# Altium schematic symbol library WCAP-PTHT.SchLib: 24 symbols
Pins are listed as number, name and electrical type; pins without a type are passive.

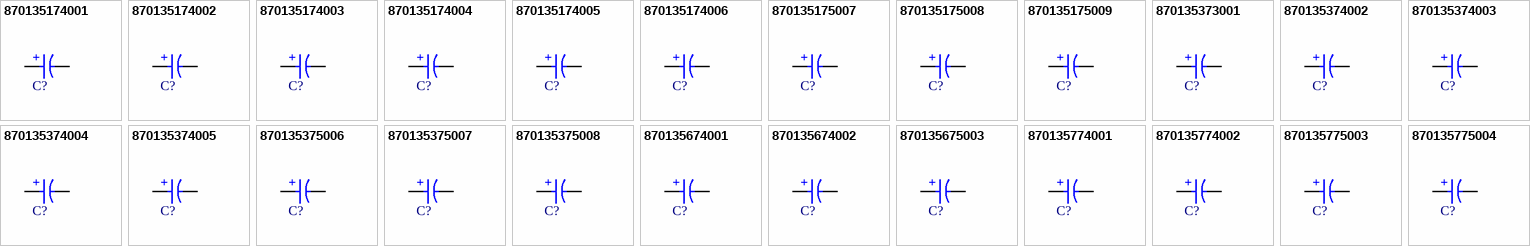
[diagram p0: symbols 870135174001 to 870135775004]

## 870135174001
designator C?, comment 390µF  (value not drawn)
WCAP-PTHT Aluminum Polymer Capacitor, Radial THT, D8 x H8mm, 390µF, 6.3V; Manufacturer Part Number: 870135174001; Manufacturer: Wurth Elektronik; Capacitance Tolerance: +/-20%; Dissipation Factor: 8%; Endurance: 2000h; ESR: 9mΩ; Leakage Current: 491.4µA; Ripple Current: 6100mA; Technical Reference: PTKE080391M6R3DSPA7B000; Category: Aluminum Polymer Capacitors; Match Code: WCAP-PTHT; ComponentLink1Description: Website Link; ComponentLink1URL: https://www.we-online.com/redexpert/article/870135174001?ad; ComponentLink2Description: Datasheet Link; ComponentLink2URL: https://www.we-online.com/redexpert/spec/870135174001?ad; Mount: Through Hole; Operating Temperature Max: 125°C; Operating Temperature Min: -55°C; Packaging: Ammo Pack; Height: 8mm; Diameter: 8mm; Capacitance: 390µF; Rated Voltage (DC): 6.3V
footprint WCAP-PTHT_D8H8
simulation model 870135174001_390uF
pins: 1 P, 2 N
text: +

## 870135174002
designator C?, comment 470µF  (value not drawn)
WCAP-PTHT Aluminum Polymer Capacitor, Radial THT, D8 x H8mm, 470µF, 6.3V; Manufacturer Part Number: 870135174002; Manufacturer: Wurth Elektronik; Capacitance Tolerance: +/-20%; Dissipation Factor: 8%; Endurance: 2000h; ESR: 9mΩ; Leakage Current: 592µA; Ripple Current: 6100mA; Technical Reference: PTKE080471M6R3DSPA7B000; Category: Aluminum Polymer Capacitors; Match Code: WCAP-PTHT; ComponentLink1Description: Website Link; ComponentLink1URL: https://www.we-online.com/redexpert/article/870135174002?ad; ComponentLink2Description: Datasheet Link; ComponentLink2URL: https://www.we-online.com/redexpert/spec/870135174002?ad; Mount: Through Hole; Operating Temperature Max: 125°C; Operating Temperature Min: -55°C; Packaging: Ammo Pack; Height: 8mm; Diameter: 8mm; Capacitance: 470µF; Rated Voltage (DC): 6.3V
footprint WCAP-PTHT_D8H8
simulation model 870135174002_470uF
pins: 1 P, 2 N
text: +

## 870135174003
designator C?, comment 560µF  (value not drawn)
WCAP-PTHT Aluminum Polymer Capacitor, Radial THT, D8 x H8mm, 560µF, 6.3V; Manufacturer Part Number: 870135174003; Manufacturer: Wurth Elektronik; Capacitance Tolerance: +/-20%; Dissipation Factor: 8%; Endurance: 2000h; ESR: 9mΩ; Leakage Current: 705.6µA; Ripple Current: 6100mA; Technical Reference: PTKE080561M6R3DSPA7B000; Category: Aluminum Polymer Capacitors; Match Code: WCAP-PTHT; ComponentLink1Description: Website Link; ComponentLink1URL: https://www.we-online.com/redexpert/article/870135174003?ad; ComponentLink2Description: Datasheet Link; ComponentLink2URL: https://www.we-online.com/redexpert/spec/870135174003?ad; Mount: Through Hole; Operating Temperature Max: 125°C; Operating Temperature Min: -55°C; Packaging: Ammo Pack; Height: 8mm; Diameter: 8mm; Capacitance: 560µF; Rated Voltage (DC): 6.3V
footprint WCAP-PTHT_D8H8
simulation model 870135174003_560uF
pins: 1 P, 2 N
text: +

## 870135174004
designator C?, comment 680µF  (value not drawn)
WCAP-PTHT Aluminum Polymer Capacitor, Radial THT, D8 x H8mm, 680µF, 6.3V; Manufacturer Part Number: 870135174004; Manufacturer: Wurth Elektronik; Capacitance Tolerance: +/-20%; Dissipation Factor: 8%; Endurance: 2000h; ESR: 9mΩ; Leakage Current: 428µA; Ripple Current: 6100mA; Technical Reference: PTKE080681M6R3DSPA7B000; Category: Aluminum Polymer Capacitors; Match Code: WCAP-PTHT; ComponentLink1Description: Website Link; ComponentLink1URL: https://www.we-online.com/redexpert/article/870135174004?ad; ComponentLink2Description: Datasheet Link; ComponentLink2URL: https://www.we-online.com/redexpert/spec/870135174004?ad; Mount: Through Hole; Operating Temperature Max: 125°C; Operating Temperature Min: -55°C; Packaging: Ammo Pack; Height: 8mm; Diameter: 8mm; Capacitance: 680µF; Rated Voltage (DC): 6.3V
footprint WCAP-PTHT_D8H8
simulation model 870135174004_680uF
pins: 1 P, 2 N
text: +

## 870135174005
designator C?, comment 820µF  (value not drawn)
WCAP-PTHT Aluminum Polymer Capacitor, Radial THT, D8 x H11.5mm, 820µF, 6.3V; Manufacturer Part Number: 870135174005; Manufacturer: Wurth Elektronik; Capacitance Tolerance: +/-20%; Dissipation Factor: 10%; Endurance: 2000h; ESR: 9mΩ; Leakage Current: 516.6µA; Ripple Current: 6100mA; Technical Reference: PTKE115821M6R3DSPA7B000; Category: Aluminum Polymer Capacitors; Match Code: WCAP-PTHT; ComponentLink1Description: Website Link; ComponentLink1URL: https://www.we-online.com/redexpert/article/870135174005?ad; ComponentLink2Description: Datasheet Link; ComponentLink2URL: https://www.we-online.com/redexpert/spec/870135174005?ad; Mount: Through Hole; Operating Temperature Max: 125°C; Operating Temperature Min: -55°C; Packaging: Ammo Pack; Height: 11.5mm; Diameter: 8mm; Capacitance: 820µF; Rated Voltage (DC): 6.3V
footprint WCAP-PTHT_D8H11.5
simulation model 870135174005_820uF
pins: 1 P, 2 N
text: +

## 870135174006
designator C?, comment 1000µF  (value not drawn)
WCAP-PTHT Aluminum Polymer Capacitor, Radial THT, D8 x H11.5mm, 1000µF, 6.3V; Manufacturer Part Number: 870135174006; Manufacturer: Wurth Elektronik; Capacitance Tolerance: +/-20%; Dissipation Factor: 10%; Endurance: 2000h; ESR: 9mΩ; Leakage Current: 630µA; Ripple Current: 6100mA; Technical Reference: PTKE115102M6R3DSPA7B000; Category: Aluminum Polymer Capacitors; Match Code: WCAP-PTHT; ComponentLink1Description: Website Link; ComponentLink1URL: https://www.we-online.com/redexpert/article/870135174006?ad; ComponentLink2Description: Datasheet Link; ComponentLink2URL: https://www.we-online.com/redexpert/spec/870135174006?ad; Mount: Through Hole; Operating Temperature Max: 125°C; Operating Temperature Min: -55°C; Packaging: Ammo Pack; Height: 11.5mm; Diameter: 8mm; Capacitance: 1000µF; Rated Voltage (DC): 6.3V
footprint WCAP-PTHT_D8H11.5
simulation model 870135174006_1mF
pins: 1 P, 2 N
text: +

## 870135175007
designator C?, comment 1200µF  (value not drawn)
WCAP-PTHT Aluminum Polymer Capacitor, Radial THT, D10 x H12.5mm, 1200µF, 6.3V; Manufacturer Part Number: 870135175007; Manufacturer: Wurth Elektronik; Capacitance Tolerance: +/-20%; Dissipation Factor: 10%; Endurance: 2000h; ESR: 9mΩ; Leakage Current: 756µA; Ripple Current: 6640mA; Technical Reference: PTKF125122M6R3DSPA9B000; Category: Aluminum Polymer Capacitors; Match Code: WCAP-PTHT; ComponentLink1Description: Website Link; ComponentLink1URL: https://www.we-online.com/redexpert/article/870135175007?ad; ComponentLink2Description: Datasheet Link; ComponentLink2URL: https://www.we-online.com/redexpert/spec/870135175007?ad; Mount: Through Hole; Operating Temperature Max: 125°C; Operating Temperature Min: -55°C; Packaging: Ammo Pack; Height: 12.5mm; Diameter: 10mm; Capacitance: 1200µF; Rated Voltage (DC): 6.3V
footprint WCAP-PTHT_D10H12.5
simulation model 870135175007_1.2mF
pins: 1 P, 2 N
text: +

## 870135175008
designator C?, comment 1500µF  (value not drawn)
WCAP-PTHT Aluminum Polymer Capacitor, Radial THT, D10 x H12.5mm, 1500µF, 6.3V; Manufacturer Part Number: 870135175008; Manufacturer: Wurth Elektronik; Capacitance Tolerance: +/-20%; Dissipation Factor: 10%; Endurance: 2000h; ESR: 9mΩ; Leakage Current: 945µA; Ripple Current: 6640mA; Technical Reference: PTKF125152M6R3DSPA9B000; Category: Aluminum Polymer Capacitors; Match Code: WCAP-PTHT; ComponentLink1Description: Website Link; ComponentLink1URL: https://www.we-online.com/redexpert/article/870135175008?ad; ComponentLink2Description: Datasheet Link; ComponentLink2URL: https://www.we-online.com/redexpert/spec/870135175008?ad; Mount: Through Hole; Operating Temperature Max: 125°C; Operating Temperature Min: -55°C; Packaging: Ammo Pack; Height: 12.5mm; Diameter: 10mm; Capacitance: 1500µF; Rated Voltage (DC): 6.3V
footprint WCAP-PTHT_D10H12.5
simulation model 870135175008_1.5mF
pins: 1 P, 2 N
text: +

## 870135175009
designator C?, comment 2000µF  (value not drawn)
WCAP-PTHT Aluminum Polymer Capacitor, Radial THT, D10 x H12.5mm, 2000µF, 6.3V; Manufacturer Part Number: 870135175009; Manufacturer: Wurth Elektronik; Capacitance Tolerance: +/-20%; Dissipation Factor: 10%; Endurance: 2000h; ESR: 9mΩ; Leakage Current: 1260µA; Ripple Current: 6640mA; Technical Reference: PTKF125202M6R3DSPA9B000; Category: Aluminum Polymer Capacitors; Match Code: WCAP-PTHT; ComponentLink1Description: Website Link; ComponentLink1URL: https://www.we-online.com/redexpert/article/870135175009?ad; ComponentLink2Description: Datasheet Link; ComponentLink2URL: https://www.we-online.com/redexpert/spec/870135175009?ad; Mount: Through Hole; Operating Temperature Max: 125°C; Operating Temperature Min: -55°C; Packaging: Ammo Pack; Height: 12.5mm; Diameter: 10mm; Capacitance: 2000µF; Rated Voltage (DC): 6.3V
footprint WCAP-PTHT_D10H12.5
simulation model 870135175009_2mF
pins: 1 P, 2 N
text: +

## 870135373001
designator C?, comment 100µF  (value not drawn)
WCAP-PTHT Aluminum Polymer Capacitor, Radial THT, D6.3 x H11mm, 100µF, 16V; Manufacturer Part Number: 870135373001; Manufacturer: Wurth Elektronik; Capacitance Tolerance: +/-20%; Dissipation Factor: 8%; Endurance: 2000h; ESR: 12mΩ; Leakage Current: 160µA; Ripple Current: 4800mA; Technical Reference: PTKD110101M016DSPA4B000; Category: Aluminum Polymer Capacitors; Match Code: WCAP-PTHT; ComponentLink1Description: Website Link; ComponentLink1URL: https://www.we-online.com/redexpert/article/870135373001?ad; ComponentLink2Description: Datasheet Link; ComponentLink2URL: https://www.we-online.com/redexpert/spec/870135373001?ad; Mount: Through Hole; Operating Temperature Max: 125°C; Operating Temperature Min: -55°C; Packaging: Ammo Pack; Height: 11mm; Diameter: 6.3mm; Capacitance: 100µF; Rated Voltage (DC): 16V
footprint WCAP-PTHT_D6.3H11
simulation model 870135373001_100uF
pins: 1 P, 2 N
text: +

## 870135374002
designator C?, comment 180µF  (value not drawn)
WCAP-PTHT Aluminum Polymer Capacitor, Radial THT, D8 x H11.5mm, 180µF, 16V; Manufacturer Part Number: 870135374002; Manufacturer: Wurth Elektronik; Capacitance Tolerance: +/-20%; Dissipation Factor: 8%; Endurance: 2000h; ESR: 10mΩ; Leakage Current: 288µA; Ripple Current: 5600mA; Technical Reference: PTKE115181M016DSPA7B000; Category: Aluminum Polymer Capacitors; Match Code: WCAP-PTHT; ComponentLink1Description: Website Link; ComponentLink1URL: https://www.we-online.com/redexpert/article/870135374002?ad; ComponentLink2Description: Datasheet Link; ComponentLink2URL: https://www.we-online.com/redexpert/spec/870135374002?ad; Mount: Through Hole; Operating Temperature Max: 125°C; Operating Temperature Min: -55°C; Packaging: Ammo Pack; Height: 11.5mm; Diameter: 8mm; Capacitance: 180µF; Rated Voltage (DC): 16V
footprint WCAP-PTHT_D8H11.5
simulation model 870135374002_180uF
pins: 1 P, 2 N
text: +

## 870135374003
designator C?, comment 220µF  (value not drawn)
WCAP-PTHT Aluminum Polymer Capacitor, Radial THT, D8 x H11.5mm, 220µF, 16V; Manufacturer Part Number: 870135374003; Manufacturer: Wurth Elektronik; Capacitance Tolerance: +/-20%; Dissipation Factor: 8%; Endurance: 2000h; ESR: 10mΩ; Leakage Current: 352µA; Ripple Current: 5600mA; Technical Reference: PTKE115221M016DSPA7B000; Category: Aluminum Polymer Capacitors; Match Code: WCAP-PTHT; ComponentLink1Description: Website Link; ComponentLink1URL: https://www.we-online.com/redexpert/article/870135374003?ad; ComponentLink2Description: Datasheet Link; ComponentLink2URL: https://www.we-online.com/redexpert/spec/870135374003?ad; Mount: Through Hole; Operating Temperature Max: 125°C; Operating Temperature Min: -55°C; Packaging: Ammo Pack; Height: 11.5mm; Diameter: 8mm; Capacitance: 220µF; Rated Voltage (DC): 16V
footprint WCAP-PTHT_D8H11.5
simulation model 870135374003_220uF
pins: 1 P, 2 N
text: +

## 870135374004
designator C?, comment 270µF  (value not drawn)
WCAP-PTHT Aluminum Polymer Capacitor, Radial THT, D8 x H11.5mm, 270µF, 16V; Manufacturer Part Number: 870135374004; Manufacturer: Wurth Elektronik; Capacitance Tolerance: +/-20%; Dissipation Factor: 8%; Endurance: 2000h; ESR: 10mΩ; Leakage Current: 432µA; Ripple Current: 5600mA; Technical Reference: PTKE115271M016DSPA7B000; Category: Aluminum Polymer Capacitors; Match Code: WCAP-PTHT; ComponentLink1Description: Website Link; ComponentLink1URL: https://www.we-online.com/redexpert/article/870135374004?ad; ComponentLink2Description: Datasheet Link; ComponentLink2URL: https://www.we-online.com/redexpert/spec/870135374004?ad; Mount: Through Hole; Operating Temperature Max: 125°C; Operating Temperature Min: -55°C; Packaging: Ammo Pack; Height: 11.5mm; Diameter: 8mm; Capacitance: 270µF; Rated Voltage (DC): 16V
footprint WCAP-PTHT_D8H11.5
simulation model 870135374004_270uF
pins: 1 P, 2 N
text: +

## 870135374005
designator C?, comment 330µF  (value not drawn)
WCAP-PTHT Aluminum Polymer Capacitor, Radial THT, D8 x H11.5mm, 330µF, 16V; Manufacturer Part Number: 870135374005; Manufacturer: Wurth Elektronik; Capacitance Tolerance: +/-20%; Dissipation Factor: 8%; Endurance: 2000h; ESR: 10mΩ; Leakage Current: 528µA; Ripple Current: 5600mA; Technical Reference: PTKE115331M016DSPA7B000; Category: Aluminum Polymer Capacitors; Match Code: WCAP-PTHT; ComponentLink1Description: Website Link; ComponentLink1URL: https://www.we-online.com/redexpert/article/870135374005?ad; ComponentLink2Description: Datasheet Link; ComponentLink2URL: https://www.we-online.com/redexpert/spec/870135374005?ad; Mount: Through Hole; Operating Temperature Max: 125°C; Operating Temperature Min: -55°C; Packaging: Ammo Pack; Height: 11.5mm; Diameter: 8mm; Capacitance: 330µF; Rated Voltage (DC): 16V
footprint WCAP-PTHT_D8H11.5
simulation model 870135374005_330uF
pins: 1 P, 2 N
text: +

## 870135375006
designator C?, comment 390µF  (value not drawn)
WCAP-PTHT Aluminum Polymer Capacitor, Radial THT, D10 x H12.5mm, 390µF, 16V; Manufacturer Part Number: 870135375006; Manufacturer: Wurth Elektronik; Capacitance Tolerance: +/-20%; Dissipation Factor: 8%; Endurance: 2000h; ESR: 10mΩ; Leakage Current: 624µA; Ripple Current: 6100mA; Technical Reference: PTKF125391M016DSPA9B000; Category: Aluminum Polymer Capacitors; Match Code: WCAP-PTHT; ComponentLink1Description: Website Link; ComponentLink1URL: https://www.we-online.com/redexpert/article/870135375006?ad; ComponentLink2Description: Datasheet Link; ComponentLink2URL: https://www.we-online.com/redexpert/spec/870135375006?ad; Mount: Through Hole; Operating Temperature Max: 125°C; Operating Temperature Min: -55°C; Packaging: Ammo Pack; Height: 12.5mm; Diameter: 10mm; Capacitance: 390µF; Rated Voltage (DC): 16V
footprint WCAP-PTHT_D10H12.5
simulation model 870135375006_390uF
pins: 1 P, 2 N
text: +

## 870135375007
designator C?, comment 470µF  (value not drawn)
WCAP-PTHT Aluminum Polymer Capacitor, Radial THT, D10 x H12.5mm, 470µF, 16V; Manufacturer Part Number: 870135375007; Manufacturer: Wurth Elektronik; Capacitance Tolerance: +/-20%; Dissipation Factor: 10%; Endurance: 2000h; ESR: 10mΩ; Leakage Current: 752µA; Ripple Current: 6100mA; Technical Reference: PTKF125471M016DSPA9B000; Category: Aluminum Polymer Capacitors; Match Code: WCAP-PTHT; ComponentLink1Description: Website Link; ComponentLink1URL: https://www.we-online.com/redexpert/article/870135375007?ad; ComponentLink2Description: Datasheet Link; ComponentLink2URL: https://www.we-online.com/redexpert/spec/870135375007?ad; Mount: Through Hole; Operating Temperature Max: 125°C; Operating Temperature Min: -55°C; Packaging: Ammo Pack; Height: 12.5mm; Diameter: 10mm; Capacitance: 470µF; Rated Voltage (DC): 16V
footprint WCAP-PTHT_D10H12.5
simulation model 870135375007_470uF
pins: 1 P, 2 N
text: +

## 870135375008
designator C?, comment 560µF  (value not drawn)
WCAP-PTHT Aluminum Polymer Capacitor, Radial THT, D10 x H12.5mm, 560µF, 16V; Manufacturer Part Number: 870135375008; Manufacturer: Wurth Elektronik; Capacitance Tolerance: +/-20%; Dissipation Factor: 10%; Endurance: 2000h; ESR: 10mΩ; Leakage Current: 896µA; Ripple Current: 6100mA; Technical Reference: PTKF125561M016DSPA9B000; Category: Aluminum Polymer Capacitors; Match Code: WCAP-PTHT; ComponentLink1Description: Website Link; ComponentLink1URL: https://www.we-online.com/redexpert/article/870135375008?ad; ComponentLink2Description: Datasheet Link; ComponentLink2URL: https://www.we-online.com/redexpert/spec/870135375008?ad; Mount: Through Hole; Operating Temperature Max: 125°C; Operating Temperature Min: -55°C; Packaging: Ammo Pack; Height: 12.5mm; Diameter: 10mm; Capacitance: 560µF; Rated Voltage (DC): 16V
footprint WCAP-PTHT_D10H12.5
simulation model 870135375008_560uF
pins: 1 P, 2 N
text: +

## 870135674001
designator C?, comment 39µF  (value not drawn)
WCAP-PTHT Aluminum Polymer Capacitor, Radial THT, D8 x H8mm, 39µF, 35V; Manufacturer Part Number: 870135674001; Manufacturer: Wurth Elektronik; Capacitance Tolerance: +/-20%; Dissipation Factor: 12%; Endurance: 2000h; ESR: 32mΩ; Leakage Current: 273µA; Ripple Current: 2600mA; Technical Reference: PTKE080390M035DSPA7B000; Category: Aluminum Polymer Capacitors; Match Code: WCAP-PTHT; ComponentLink1Description: Website Link; ComponentLink1URL: https://www.we-online.com/redexpert/article/870135674001?ad; ComponentLink2Description: Datasheet Link; ComponentLink2URL: https://www.we-online.com/redexpert/spec/870135674001?ad; Mount: Through Hole; Operating Temperature Max: 125°C; Operating Temperature Min: -55°C; Packaging: Ammo Pack; Height: 8mm; Diameter: 8mm; Capacitance: 39µF; Rated Voltage (DC): 35V
footprint WCAP-PTHT_D8H8
simulation model 870135674001_39uF
pins: 1 P, 2 N
text: +

## 870135674002
designator C?, comment 56µF  (value not drawn)
WCAP-PTHT Aluminum Polymer Capacitor, Radial THT, D8 x H11.5mm, 56µF, 35V; Manufacturer Part Number: 870135674002; Manufacturer: Wurth Elektronik; Capacitance Tolerance: +/-20%; Dissipation Factor: 12%; Endurance: 2000h; ESR: 25mΩ; Leakage Current: 392µA; Ripple Current: 3200mA; Technical Reference: PTKE115560M035DSPA7B000; Category: Aluminum Polymer Capacitors; Match Code: WCAP-PTHT; ComponentLink1Description: Website Link; ComponentLink1URL: https://www.we-online.com/redexpert/article/870135674002?ad; ComponentLink2Description: Datasheet Link; ComponentLink2URL: https://www.we-online.com/redexpert/spec/870135674002?ad; Mount: Through Hole; Operating Temperature Max: 125°C; Operating Temperature Min: -55°C; Packaging: Ammo Pack; Height: 11.5mm; Diameter: 8mm; Capacitance: 56µF; Rated Voltage (DC): 35V
footprint WCAP-PTHT_D8H11.5
simulation model 870135674002_56uF
pins: 1 P, 2 N
text: +

## 870135675003
designator C?, comment 100µF  (value not drawn)
WCAP-PTHT Aluminum Polymer Capacitor, Radial THT, D10 x H12.5mm, 100µF, 35V; Manufacturer Part Number: 870135675003; Manufacturer: Wurth Elektronik; Capacitance Tolerance: +/-20%; Dissipation Factor: 12%; Endurance: 2000h; ESR: 22mΩ; Leakage Current: 700µA; Ripple Current: 4000mA; Technical Reference: PTKF125101M035DSPA9B000; Category: Aluminum Polymer Capacitors; Match Code: WCAP-PTHT; ComponentLink1Description: Website Link; ComponentLink1URL: https://www.we-online.com/redexpert/article/870135675003?ad; ComponentLink2Description: Datasheet Link; ComponentLink2URL: https://www.we-online.com/redexpert/spec/870135675003?ad; Mount: Through Hole; Operating Temperature Max: 125°C; Operating Temperature Min: -55°C; Packaging: Ammo Pack; Height: 12.5mm; Diameter: 10mm; Capacitance: 100µF; Rated Voltage (DC): 35V
footprint WCAP-PTHT_D10H12.5
simulation model 870135675003_100uF
pins: 1 P, 2 N
text: +

## 870135774001
designator C?, comment 22µF  (value not drawn)
WCAP-PTHT Aluminum Polymer Capacitor, Radial THT, D8 x H8mm, 22µF, 50V; Manufacturer Part Number: 870135774001; Manufacturer: Wurth Elektronik; Capacitance Tolerance: +/-20%; Dissipation Factor: 12%; Endurance: 2000h; ESR: 35mΩ; Leakage Current: 220µA; Ripple Current: 2500mA; Technical Reference: PTKE080220M050DSPA7B000; Category: Aluminum Polymer Capacitors; Match Code: WCAP-PTHT; ComponentLink1Description: Website Link; ComponentLink1URL: https://www.we-online.com/redexpert/article/870135774001?ad; ComponentLink2Description: Datasheet Link; ComponentLink2URL: https://www.we-online.com/redexpert/spec/870135774001?ad; Mount: Through Hole; Operating Temperature Max: 125°C; Operating Temperature Min: -55°C; Packaging: Ammo Pack; Height: 8mm; Diameter: 8mm; Capacitance: 22µF; Rated Voltage (DC): 50V
footprint WCAP-PTHT_D8H8
simulation model 870135774001_22uF
pins: 1 P, 2 N
text: +

## 870135774002
designator C?, comment 27µF  (value not drawn)
WCAP-PTHT Aluminum Polymer Capacitor, Radial THT, D8 x H11.5mm, 27µF, 50V; Manufacturer Part Number: 870135774002; Manufacturer: Wurth Elektronik; Capacitance Tolerance: +/-20%; Dissipation Factor: 12%; Endurance: 2000h; ESR: 32mΩ; Leakage Current: 270µA; Ripple Current: 2700mA; Technical Reference: PTKE115270M050DSPA7B000; Category: Aluminum Polymer Capacitors; Match Code: WCAP-PTHT; ComponentLink1Description: Website Link; ComponentLink1URL: https://www.we-online.com/redexpert/article/870135774002?ad; ComponentLink2Description: Datasheet Link; ComponentLink2URL: https://www.we-online.com/redexpert/spec/870135774002?ad; Mount: Through Hole; Operating Temperature Max: 125°C; Operating Temperature Min: -55°C; Packaging: Ammo Pack; Height: 11.5mm; Diameter: 8mm; Capacitance: 27µF; Rated Voltage (DC): 50V
footprint WCAP-PTHT_D8H11.5
simulation model 870135774002_27uF
pins: 1 P, 2 N
text: +

## 870135775003
designator C?, comment 33µF  (value not drawn)
WCAP-PTHT Aluminum Polymer Capacitor, Radial THT, D10 x H10mm, 33µF, 50V; Manufacturer Part Number: 870135775003; Manufacturer: Wurth Elektronik; Capacitance Tolerance: +/-20%; Dissipation Factor: 12%; Endurance: 2000h; ESR: 30mΩ; Leakage Current: 330µA; Ripple Current: 3476mA; Technical Reference: PTKF100330M050DSPA9B000; Category: Aluminum Polymer Capacitors; Match Code: WCAP-PTHT; ComponentLink1Description: Website Link; ComponentLink1URL: https://www.we-online.com/redexpert/article/870135775003?ad; ComponentLink2Description: Datasheet Link; ComponentLink2URL: https://www.we-online.com/redexpert/spec/870135775003?ad; Mount: Through Hole; Operating Temperature Max: 125°C; Operating Temperature Min: -55°C; Packaging: Ammo Pack; Height: 10mm; Diameter: 10mm; Capacitance: 33µF; Rated Voltage (DC): 50V
footprint WCAP-PTHT_D10H10
simulation model 870135775003_33uF
pins: 1 P, 2 N
text: +

## 870135775004
designator C?, comment 47µF  (value not drawn)
WCAP-PTHT Aluminum Polymer Capacitor, Radial THT, D10 x H12.5mm, 47µF, 50V; Manufacturer Part Number: 870135775004; Manufacturer: Wurth Elektronik; Capacitance Tolerance: +/-20%; Dissipation Factor: 12%; Endurance: 2000h; ESR: 25mΩ; Leakage Current: 470µA; Ripple Current: 4100mA; Technical Reference: PTKF125470M050DSPA9B000; Category: Aluminum Polymer Capacitors; Match Code: WCAP-PTHT; ComponentLink1Description: Website Link; ComponentLink1URL: https://www.we-online.com/redexpert/article/870135775004?ad; ComponentLink2Description: Datasheet Link; ComponentLink2URL: https://www.we-online.com/redexpert/spec/870135775004?ad; Mount: Through Hole; Operating Temperature Max: 125°C; Operating Temperature Min: -55°C; Packaging: Ammo Pack; Height: 12.5mm; Diameter: 10mm; Capacitance: 47µF; Rated Voltage (DC): 50V
footprint WCAP-PTHT_D10H12.5
simulation model 870135775004_47uF
pins: 1 P, 2 N
text: +